# EAGLE library part CDCV304 (library SureDSP)
CDCV304 1:4 Clock Buffer with TTL Level
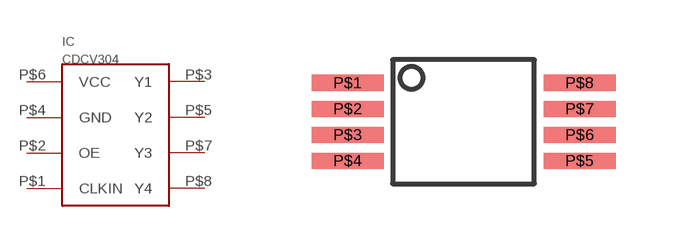
[diagram p3: symbol with the pads of CDCV304; footprint CDCV304]

Designator prefix IC

## CDCV304  [CDCV304]
P$1  CLKIN
P$2  OE
P$3  Y1
P$4  GND
P$5  Y2
P$6  VCC
P$7  Y3
P$8  Y4

## Footprint CDCV304 (pad centres in mm)
smd 1.8 x 0.4: P$1 -2.9,0.975; P$2 -2.9,0.325; P$3 -2.9,-0.325; P$4 -2.9,-0.975; P$5 2.9,-0.975; P$6 2.9,-0.325; P$7 2.9,0.325; P$8 2.9,0.975